# EAGLE library part 24D- (library Chips)
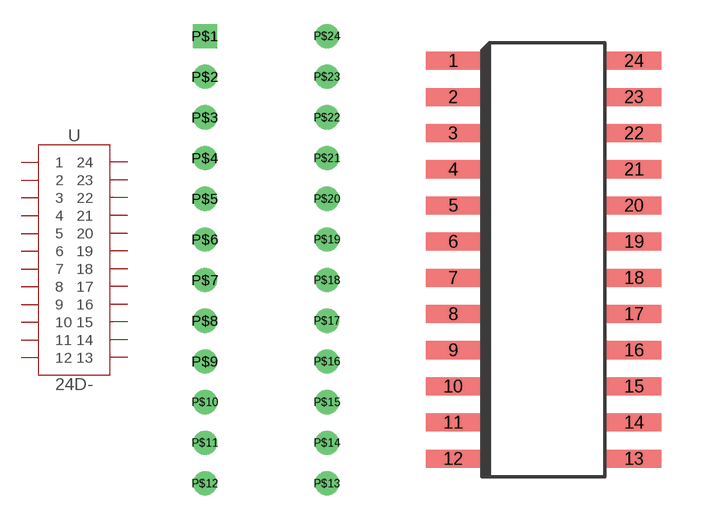
[diagram p6: symbol with the pads of 24DIP; footprints 24DIP, 24SOP_4.4MM]

Designator prefix U

## 24D-DIP  [24DIP]
P$1  1
P$2  2
P$3  3
P$4  4
P$5  5
P$6  6
P$7  7
P$8  8
P$9  9
P$10  10
P$11  11
P$12  12
P$13  13
P$14  14
P$15  15
P$16  16
P$17  17
P$18  18
P$19  19
P$20  20
P$21  21
P$22  22
P$23  23
P$24  24

## 24D-SO_4.4  [24SOP_4.4MM]
1  1
2  2
3  3
4  4
5  5
6  6
7  7
8  8
9  9
10  10
11  11
12  12
13  13
14  14
15  15
16  16
17  17
18  18
19  19
20  20
21  21
22  22
23  23
24  24

## 24D-SO_5.6  [24SOP_5.6MM]
Pads as for 24SOP_4.4MM

## 24D-SSOP_4.4  [24SSOP_4.4MM]
Pads as for 24DIP

## 24D-SSOP_5.6  [24SSOP_5.6MM]
Pads as for 24DIP

## Footprint 24DIP (pad centres in mm)
drill 1 square: P$1 -3.81,13.97
drill 1: P$2 -3.81,11.43; P$3 -3.81,8.89; P$4 -3.81,6.35; P$5 -3.81,3.81; P$6 -3.81,1.27; P$7 -3.81,-1.27; P$8 -3.81,-3.81; P$9 -3.81,-6.35; P$10 -3.81,-8.89; P$11 -3.81,-11.43; P$12 -3.81,-13.97; P$13 3.81,-13.97; P$14 3.81,-11.43; P$15 3.81,-8.89; P$16 3.81,-6.35; P$17 3.81,-3.81; P$18 3.81,-1.27; P$19 3.81,1.27; P$20 3.81,3.81; P$21 3.81,6.35; P$22 3.81,8.89; P$23 3.81,11.43; P$24 3.81,13.97

## Footprint 24SOP_4.4MM (pad centres in mm)
smd 1.905 x 0.635: 1 -3.175,6.985; 2 -3.175,5.715; 3 -3.175,4.445; 4 -3.175,3.175; 5 -3.175,1.905; 6 -3.175,0.635; 7 -3.175,-0.635; 8 -3.175,-1.905; 9 -3.175,-3.175; 10 -3.175,-4.445; 11 -3.175,-5.715; 12 -3.175,-6.985; 13 3.175,-6.985; 14 3.175,-5.715; 15 3.175,-4.445; 16 3.175,-3.175; 17 3.175,-1.905; 18 3.175,-0.635; 19 3.175,0.635; 20 3.175,1.905; 21 3.175,3.175; 22 3.175,4.445; 23 3.175,5.715; 24 3.175,6.985

## Footprint 24SOP_5.6MM (pad centres in mm)
smd 1.905 x 0.635: 1 -3.81,6.985; 2 -3.81,5.715; 3 -3.81,4.445; 4 -3.81,3.175; 5 -3.81,1.905; 6 -3.81,0.635; 7 -3.81,-0.635; 8 -3.81,-1.905; 9 -3.81,-3.175; 10 -3.81,-4.445; 11 -3.81,-5.715; 12 -3.81,-6.985; 13 3.81,-6.985; 14 3.81,-5.715; 15 3.81,-4.445; 16 3.81,-3.175; 17 3.81,-1.905; 18 3.81,-0.635; 19 3.81,0.635; 20 3.81,1.905; 21 3.81,3.175; 22 3.81,4.445; 23 3.81,5.715; 24 3.81,6.985

## Footprint 24SSOP_4.4MM (pad centres in mm)
smd 1.27 x 0.406: P$1 -3.175,3.493; P$2 -3.175,2.857; P$3 -3.175,2.223; P$4 -3.175,1.587; P$5 -3.175,0.953; P$6 -3.175,0.318; P$7 -3.175,-0.318; P$8 -3.175,-0.953; P$9 -3.175,-1.587; P$10 -3.175,-2.223; P$11 -3.175,-2.857; P$12 -3.175,-3.493; P$13 3.175,-3.493; P$14 3.175,-2.857; P$15 3.175,-2.223; P$16 3.175,-1.587; P$17 3.175,-0.953; P$18 3.175,-0.318; P$19 3.175,0.318; P$20 3.175,0.953; P$21 3.175,1.587; P$22 3.175,2.223; P$23 3.175,2.857; P$24 3.175,3.493

## Footprint 24SSOP_5.6MM (pad centres in mm)
smd 1.27 x 0.406: P$1 -3.81,3.493; P$2 -3.81,2.857; P$3 -3.81,2.223; P$4 -3.81,1.587; P$5 -3.81,0.953; P$6 -3.81,0.318; P$7 -3.81,-0.318; P$8 -3.81,-0.953; P$9 -3.81,-1.587; P$10 -3.81,-2.223; P$11 -3.81,-2.857; P$12 -3.81,-3.493; P$13 3.81,-3.493; P$14 3.81,-2.857; P$15 3.81,-2.223; P$16 3.81,-1.587; P$17 3.81,-0.953; P$18 3.81,-0.318; P$19 3.81,0.318; P$20 3.81,0.953; P$21 3.81,1.587; P$22 3.81,2.223; P$23 3.81,2.857; P$24 3.81,3.493